# EAGLE library part 750510536 (library Wurth Electronics Midcom Inc - EAGLE Lib V2-1)
Package Style: EPS7 Mounting: SMD Pins: 8 pins Bobbin: 070-4971 Best pinouts for production vary per application. Please contact Wurth Electronics Midcom, Inc. for assistance with your custom design. Website: Wurth Electronics Midcom <http://www.we-online.com/midcom> Contact us Wurth Electronics Midcom, Inc. 121 Airport Dr. Watertown, SD 57201 Phone: (605) 886-4385 Fax: (605) 886-4486 E-Mail: midcom@we-online.com
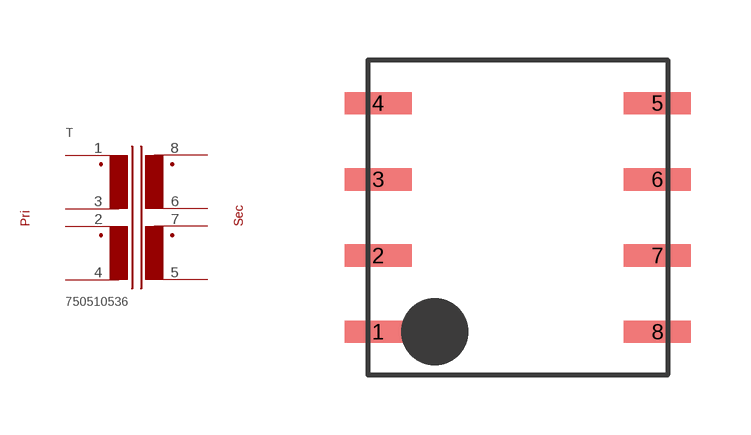
[diagram p160: symbol with the pads of EPS7_SMD_H_8PIN_(4971); footprint EPS7_SMD_H_8PIN_(4971)]

Designator prefix T

## 750510536  [EPS7_SMD_H_8PIN_(4971)]
1  1  pas
2  2  pas
3  3  pas
4  4  pas
5  5  pas
6  6  pas
7  7  pas
8  8  pas

## Footprint EPS7_SMD_H_8PIN_(4971) (pad centres in mm)
Package Style: EPS7 Mounting: SMD Pins: 8 Bobbin: 070-4971
smd 1.676 x 0.559: 1 -3.493,-2.857; 2 -3.493,-0.953; 3 -3.493,0.953; 4 -3.493,2.857; 5 3.493,2.857; 6 3.493,0.953; 7 3.493,-0.953; 8 3.493,-2.857